# Altium integrated library pca20035.IntLib: 113 symbols (part 1 of 2)
Pins are listed as number, name and electrical type; pins without a type are passive.

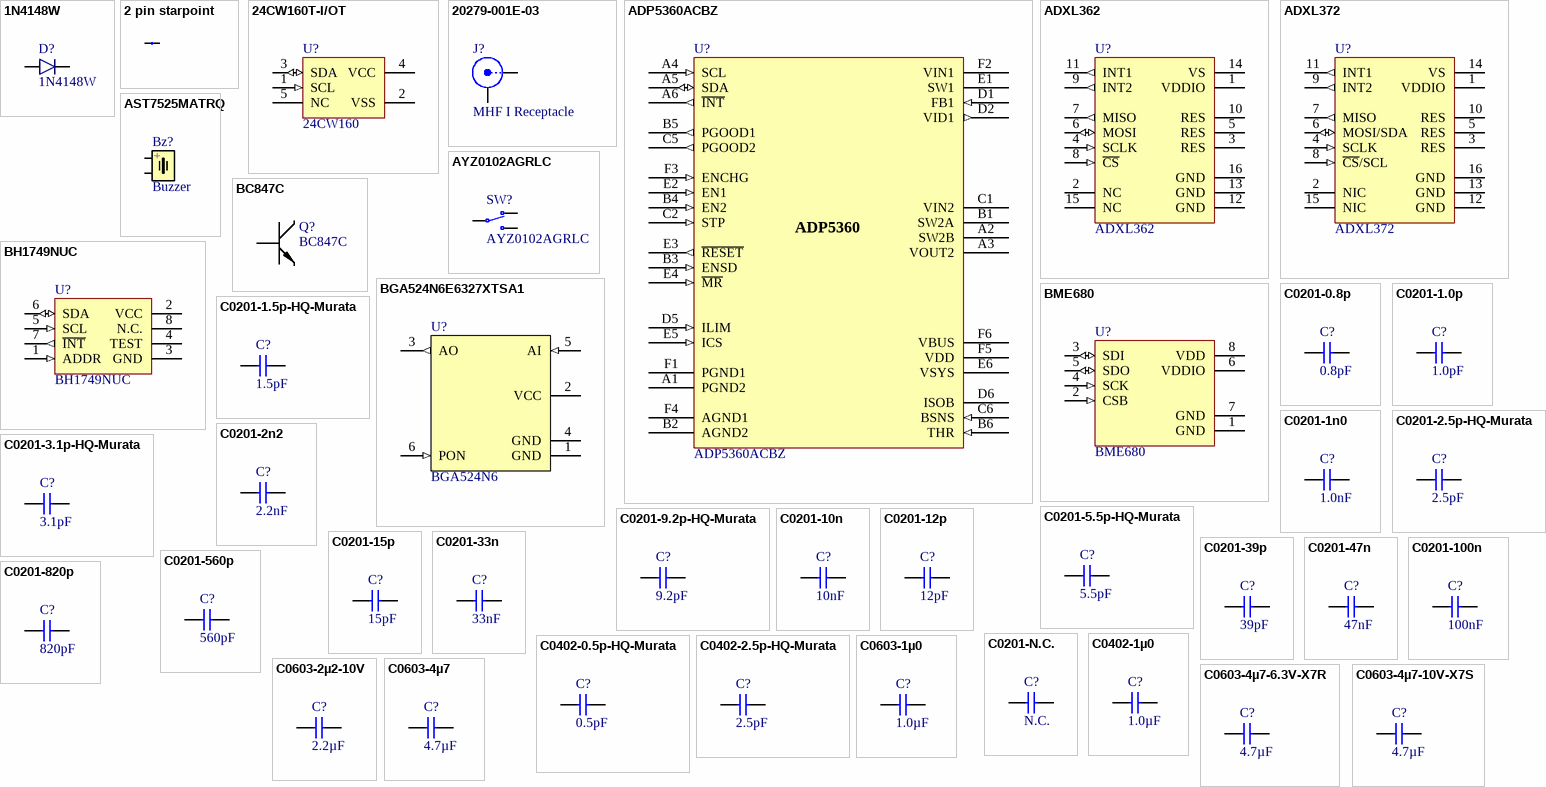
[diagram p0: symbols 1N4148W to C0603-4µ7-10V-X7S]

## 1N4148W
designator D?
1N4148, Small Signal Fast Switching Diode; Manufacturer: Vishay; Manufacturer Part Number: 1N4148W-E3-08; Part number IPS: 00000001783; Artikkelnr Noca: N.A.; Pad Count: 2; Part Number: 1N4148W; ComponentLink1URL: N.A.; ComponentLink1Description: Datasheet; ComponentLink2URL: N.A.; ComponentLink2Description: Supplier link; HelpURL: http://www.vishay.com/docs/85748/1n4148w.pdf; Footprint Doc: SOD-123; LatestRevisionDate: 2016-01-12; Published: 2011-04-21; Value: 1N4148W; Note: Small Signal Fast Switching Diode; Supplier 1: Farnell; Supplier Part Number 1: 237-7282; Supplier 2: Digi-Key; Supplier Part Number 2: 1N4148W-E3-08CT-ND; Component Class: Semiconductors; PartId: 101300078
footprint SOD-123-DIODE
pins: 1 C, 2 A

## 2 pin starpoint
designator ST?, comment N.A.  (value not drawn)  (net tie, no BOM)
Starpoint; Part Number: 2 pin starpoint; Pad Count: 2; Manufacturer: N.A.; Manufacturer Part Number: N.A.; ComponentLink1URL: N.A.; ComponentLink1Description: Datasheet; ComponentLink2URL: N.A.; ComponentLink2Description: Supplier link; HelpURL: N.A.; Footprint Doc: N.A.; LatestRevisionDate: 2017-08-31; Published: 2017-08-31; Value: N.A.; Note: N.A.; Supplier 1: N.A.; Supplier Part Number 1: N.A.; Supplier 2: N.A.; Supplier Part Number 2: N.A.; Artikkelnr Noca: N.A.; Part number IPS: N.A.; Component Class: Connectors; PartId: 100500603
footprint 2 PIN STARPOINT
pins: 1, 2

## 24CW160T-I/OT
designator U?, comment 24CW160
16 Kbit I2C Serial EEPROM with Software Write Protection, 1.6-5.5 V Supply; Part Number: 24CW160T-I/OT; Manufacturer: Microchip Technology; Part number IPS: 00000004049; Note: N.A.; Pad Count: 5; Manufacturer Part Number: 24CW160T-I/OT; Footprint Doc: TSOT23-5; LatestRevisionDate: 2020-01-17; Published: 2020-01-17; Value: 24CW160; Artikkelnr Noca: N.A.; ComponentLink1URL: http://ww1.microchip.com/downloads/en/DeviceDoc/24CW16X-24CW32X-24CW64X-24CW128X-Data-Sheet-20005772B.pdf; ComponentLink1Description: Datasheet; ComponentLink2URL: https://www.digikey.com/product-detail/en/microchip-technology/24CW160T-I-OT/24CW160T-I-OTCT-ND/8594982; ComponentLink2Description: Supplier link; HelpURL: https://www.microchip.com/wwwproducts/en/24CW160; Supplier 1: Digi-Key; Supplier Part Number 1: 24CW160T-I/OTCT-ND; Supplier 2: Mouser; Supplier Part Number 2: 579-24CW160T-I/OT; Component Class: Misc_ICs; PartId: 101900604
footprint SOT-23-5
pins: 1 SCL (in), 2 VSS (power), 3 SDA (io), 4 VCC (power), 5 NC

## 20279-001E-03
designator J?, comment MHF I Receptacle
Ultraminiature Coaxial Connector, 50 Ohm, SMD; Part Number: 20279-001E-03; Manufacturer: Wellshow; Part number IPS: 00000004436; Note: N.A.; Pad Count: 3; Manufacturer Part Number: 20279-001E-03; ComponentLink1URL: \\hizz\pro\app9717\Datasheet\connectors\Wellshow\20279C18.pdf; ComponentLink1Description: Datasheet; ComponentLink2URL: N.A.; ComponentLink2Description: Supplier link; HelpURL: N.A.; Footprint Doc: COAXIAL RF MHFI; LatestRevisionDate: 2020-04-28; Published: 2020-01-07; Value: MHF I Receptacle; Supplier 1: Cabcon; Supplier Part Number 1: 20279-001E-03; Supplier 2: Digi-Key; Supplier Part Number 2: H11891DKR-ND; Artikkelnr Noca: N.A.; Component Class: Connectors; PartId: 100500636
footprint COAXIAL RF U.FL-R-SMT-1
pins: 1 X, 2 Y

## ADP5360ACBZ
designator U?
Advanced Battery Management PMIC With Ultralow Iq Buck and Buck-Boost; Manufacturer: Analog Devices; Part number IPS: 80000001823; Note: N.A.; Pad Count: 32; Part Number: ADP5360ACBZ; Manufacturer Part Number: ADP5360ACBZ; ComponentLink1URL: \\hizz\pro\app9717\Datasheet\integated circuits\analog\ADP5360 PRC3 Datasheet_022017.pdf; ComponentLink1Description: Datasheet; ComponentLink2URL: N.A.; ComponentLink2Description: Supplier link; HelpURL: N.A.; Footprint Doc: WLCSP-32; LatestRevisionDate: 2018-09-18; Published: 2018-09-18; Value: ADP5360ACBZ; Supplier 1: N.A.; Supplier Part Number 1: N.A.; Supplier 2: N.A.; Supplier Part Number 2: N.A.; Artikkelnr Noca: N.A.; Component Class: Misc_ICs; PartId: 101900554
footprint BGA32C40P6X6_238X238X56
pins: A1 PGND2 (power), A2 SW2B (power), A3 VOUT2 (power), A4 SCL (in), A5 SDA (io), A6 ~{INT} (out), B1 SW2A (power), B2 AGND2 (power), B3 ENSD (in), B4 EN2 (in), B5 PGOOD1 (out), B6 THR (in), C1 VIN2 (power), C2 STP (in), C5 PGOOD2 (out), C6 BSNS (in), D1 FB1 (in), D2 VID1 (out), D5 ILIM (in), D6 ISOB (power), E1 SW1 (power), E2 EN1 (in), E3 ~{RESET} (out), E4 ~{MR} (in), E5 ICS (in), E6 VSYS (power), F1 PGND1 (power), F2 VIN1 (power), F3 ENCHG (in), F4 AGND1 (power), F5 VDD (power), F6 VBUS (power)
text: ADP5360

## ADXL362
designator U?
Micropower, 3-Axis, ±2 g/±4 g/±8 g Digital Output MEMS Accelerometer; Manufacturer: Analog Devices; Part number IPS: 00000001799; Note: N.A.; Pad Count: 16; Part Number: ADXL362; Manufacturer Part Number: ADXL362; ComponentLink1URL: http://www.analog.com/media/en/technical-documentation/data-sheets/ADXL362.pdf; ComponentLink1Description: Datasheet; ComponentLink2URL: http://www.analog.com/en/products/adxl362.html; ComponentLink2Description: Supplier link; HelpURL: https://www.analog.com/media/en/technical-documentation/data-sheets/ADXL362.pdf; Footprint Doc: LGA-16; LatestRevisionDate: 2019-01-11; Published: 2019-01-11; Value: ADXL362; Supplier 1: Digi-Key; Supplier Part Number 1: ADXL362BCCZ-RL7CT-ND; Supplier 2: Mouser; Supplier Part Number 2: 584-ADXL362BCCZ-R7; Artikkelnr Noca: N.A.; Component Class: Misc_ICs; PartId: 101900573
footprint LGA50P322X300X114-16N
pins: 1 VDDIO (power), 2 NC, 3 RES, 4 SCLK (in), 5 RES, 6 MOSI (io), 7 MISO (out), 8 ~{CS} (in), 9 INT2 (out), 10 RES, 11 INT1 (out), 12 GND (power), 13 GND (power), 14 VS (power), 15 NC, 16 GND (power)

## ADXL372
designator U?
Micropower, 3-Axis, ±200g digital output acelerometer; Manufacturer: Analog Devices; Part number IPS: 00000001798; Note: N.A.; Pad Count: 16; Part Number: ADXL372; Manufacturer Part Number: ADXL372; Footprint Doc: LGA-16; LatestRevisionDate: 2018-08-24; Published: 2018-08-24; Value: ADXL372; Artikkelnr Noca: N.A.; ComponentLink1URL: http://www.analog.com/media/en/technical-documentation/data-sheets/ADXL372.pdf; ComponentLink1Description: Datasheet; ComponentLink2URL: http://www.analog.com/en/products/adxl372.html; ComponentLink2Description: Supplier link; HelpURL: http://www.analog.com/en/products/adxl372.html; Supplier 1: Digi-Key; Supplier Part Number 1: ADXL372BCCZ-RL7CT-ND; Supplier 2: N.A.; Supplier Part Number 2: N.A.; Component Class: Misc_ICs; PartId: 101900553
footprint LGA50P322X300X114-16N
pins: 1 VDDIO (power), 2 NIC, 3 RES, 4 SCLK (in), 5 RES, 6 MOSI/SDA (io), 7 MISO (out), 8 ~{CS}/SCL (in), 9 INT2 (out), 10 RES, 11 INT1 (out), 12 GND (power), 13 GND (power), 14 VS (power), 15 NIC, 16 GND (power)

## AST7525MATRQ
designator Bz?, comment Buzzer
Buzzer Transducer, 3.6V 100mA 2.7kHz 85dB @ 3.6V, SMD; Part Number: AST7525MATRQ; Manufacturer: Mallory; Part number IPS: 00000001770; Note: N.A.; Pad Count: 2; Manufacturer Part Number: AST7525MATRQ; ComponentLink1URL: N.A.; ComponentLink1Description: Datasheet; ComponentLink2URL: N.A.; ComponentLink2Description: Supplier link; HelpURL: https://www.mspindy.com/specifications/AST7525MATRQ.pdf; Footprint Doc: Buzzer_SMD_7.5x7.5; LatestRevisionDate: 2019-01-14; Published: 2019-01-14; Value: Buzzer; Supplier 1: Digi-Key; Supplier Part Number 1: 458-1100-1-ND; Supplier 2: Mouser; Supplier Part Number 2: 539-AST7525MATRQ; Artikkelnr Noca: N.A.; Component Class: Transducers; PartId: 101000024
footprint Buzzer_SMD_7.5x7.5
pins: 1, 2
text: +

## AYZ0102AGRLC
designator SW?
Miniature slide switch, SPDT, Right-Angle, ON-ON, 12V, 100mA; Manufacturer: C&K; Part number IPS: 00000002488; Note: N.A.; Pad Count: 3; Part Number: AYZ0102AGRLC; Manufacturer Part Number: AYZ0102AGRLC; ComponentLink1URL: https://www.ckswitches.com/media/1431/ayz.pdf; ComponentLink1Description: Datasheet; ComponentLink2URL: N.A.; ComponentLink2Description: Supplier link; Footprint Doc: AYZ0102AGRLC; LatestRevisionDate: 2019-05-08; Published: 2019-05-08; Value: AYZ0102AGRLC; Artikkelnr Noca: N.A.; Supplier 1: Digi-Key; Supplier Part Number 1: 401-2012-1-ND; Supplier 2: N.A.; Supplier Part Number 2: N.A.; HelpURL: https://www.ckswitches.com/media/1431/ayz.pdf; Component Class: Switches; PartId: 101500120
footprint AYZ0102AGRLC
pins: 1 N.C, 2 COM, 3 N.O

## BC847C
designator Q?
BC847C, NPN Silicon transistor; Manufacturer: NXP Semiconductors; Part number IPS: 00000001793; Note: NPN Epitaxial Silicon Transistor; Artikkelnr Noca: 35019020; Pad Count: 3; Part Number: BC847C; Manufacturer Part Number: BC847C; ComponentLink1URL: N.A.; ComponentLink1Description: Datasheet; ComponentLink2URL: N.A.; ComponentLink2Description: Supplier link; HelpURL: N.A.; Footprint Doc: SOT-23a; LatestRevisionDate: 2009-11-23; Published: 2009-05-10; Value: BC847C; Supplier 1: Farnell; Supplier Part Number 1: 108-1235; Supplier 2: Digi-Key; Supplier Part Number 2: 568-1636-1-ND; Component Class: Semiconductors; PartId: 101300006
footprint SOT-23a
pins: 1 B, 2 E (power), 3 C (power)

## BGA524N6E6327XTSA1
designator U?, comment BGA524N6
GPS/GNSS Low-Noise Amplifier, 19.6dB Gain, 0.55dB Noise Figure, 1.5V to 3.3V Supply Range; Part Number: BGA524N6E6327XTSA1; Manufacturer: Infineon Technologies; Part number IPS: 00000004011; Note: N.A.; Pad Count: 6; Manufacturer Part Number: BGA524N6E6327XTSA1; Footprint Doc: XFDFN-6; Value: BGA524N6; ComponentLink1URL: https://www.infineon.com/dgdl/Infineon-BGA524N6-DS-v03_00-en.pdf?fileId=db3a304344e406b50144e44dfad302b9; ComponentLink1Description: Datasheet; ComponentLink2URL: N.A.; ComponentLink2Description: Supplier link; HelpURL: https://www.infineon.com/cms/en/product/rf-wireless-control/low-noise-amplifier-lna-ics/gps-glonass-compass-lna/bga524n6/; LatestRevisionDate: 2019-10-25; Published: 2019-10-25; Supplier 1: Digi-Key; Supplier Part Number 1: BGA524N6E6327XTSA1CT-ND; Supplier 2: Mouser; Supplier Part Number 2: 726-A524N6E6327XTSA1; Artikkelnr Noca: N.A.; Component Class: Misc_ICs; PartId: 101900596
footprint XFDFN40P100X55-6N
pins: 1 GND (power), 2 VCC (power), 3 AO (out), 4 GND (power), 5 AI (in), 6 PON (in)

## BH1749NUC
designator U?
Digital 16bit Serial Output Type Color Sensor IC; Manufacturer: Rohm Semiconductor; Part number IPS: 00000001801; Note: N.A.; Pad Count: 8; Part Number: BH1749NUC; Manufacturer Part Number: BH1749NUC; Footprint Doc: WSON-8; LatestRevisionDate: 2019-01-11; Published: 2019-01-11; Value: BH1749NUC; Artikkelnr Noca: N.A.; ComponentLink1URL: N.A.; ComponentLink1Description: Datasheet; ComponentLink2URL: N.A.; ComponentLink2Description: Supplier link; HelpURL: https://www.rohm.com/datasheet/BH1749NUC/bh1749nuc-e; Supplier 1: Digi-Key; Supplier Part Number 1: BH1749NUC-E2CT-ND; Supplier 2: Mouser; Supplier Part Number 2: 755-BH1749NUC-E2; Component Class: Misc_ICs; PartId: 101900572
footprint WSON50P210X210X60_HS-9N
pins: 1 ADDR (in), 2 VCC (power), 3 GND (power), 4 TEST, 5 SCL (in), 6 SDA (io), 7 ~{INT} (out), 8 N.C., 9 GND (power) hidden to GND

## BME680
designator U?
Low power gas, pressure, temperature & humidity sensor; Manufacturer: Bosch; Part number IPS: 00000001800; Note: N.A.; Pad Count: 8; Part Number: BME680; Manufacturer Part Number: BME680; Footprint Doc: LGA-8; LatestRevisionDate: 2018-05-24; Published: 2018-05-24; Value: BME680; Artikkelnr Noca: N.A.; ComponentLink1URL: https://ae-bst.resource.bosch.com/media/_tech/media/datasheets/BST-BME680-DS001-00.pdf; ComponentLink1Description: Datasheet; ComponentLink2Description: Supplier link; HelpURL: N.A.; Supplier 1: Digi-Key; Supplier Part Number 1: 828-1077-1-ND; Supplier 2: N.A.; Supplier Part Number 2: N.A.; Component Class: Misc_ICs; PartId: 101900532; ComponentLink2URL: N.A.
footprint BME680
pins: 1 GND (power), 2 CSB (in), 3 SDI (io), 4 SCK (in), 5 SDO (io), 6 VDDIO (power) "1.2V - 3.6V", 7 GND (power), 8 VDD (power) "1.71V - 3.6V"

## C0201-0.8p
designator C?, comment 0.8pF
Capacitor, NP0, ±0.05pF, 50V; Part Number: C0201-0.8p; Manufacturer: Murata; Manufacturer Part Number: GJM0335C1HR80WB01; Part number IPS: 80000001975; Artikkelnr Noca: N.A.; Pad Count: 2; LatestRevisionDate: 2018-10-22; Published: 2014-11-13; Value: 0.8pF; Note: 50V; Footprint Doc: 0201; ComponentLink1URL: N.A.; ComponentLink1Description: Datasheet; ComponentLink2URL: N.A.; ComponentLink2Description: Supplier link; HelpURL: N.A.; Supplier 1: N.A.; Supplier Part Number 1: N.A.; Supplier 2: N.A.; Supplier Part Number 2: N.A.; Component Class: Capacitors; PartId: 100200012
footprint CAPC0603X03L_C
pins: 1, 2

## C0201-1.0p
designator C?, comment 1.0pF
Capacitor, NP0, ±0.05pF, 50V; Part Number: C0201-1.0p; Manufacturer: N.A.; Part number IPS: 00000001247; Pad Count: 2; Manufacturer Part Number: N.A.; LatestRevisionDate: 2018-10-22; Published: 2014-11-13; Value: 1.0pF; Footprint Doc: 0201; ComponentLink1URL: N.A.; ComponentLink1Description: Datasheet; ComponentLink2URL: N.A.; ComponentLink2Description: Supplier link; HelpURL: N.A.; Note: 50V; Supplier 1: N.A.; Supplier Part Number 1: N.A.; Supplier 2: N.A.; Supplier Part Number 2: N.A.; Artikkelnr Noca: N.A.; Component Class: Capacitors; PartId: 100200014
footprint CAPC0603X03L_C
pins: 1, 2

## C0201-1.5p-HQ-Murata
designator C?, comment 1.5pF
Capacitor, NP0, ±0.05pF, 25V; Part Number: C0201-1.5p-HQ-Murata; Manufacturer: Murata; Manufacturer Part Number: GJM0334C1E1R5WB01; Part number IPS: 00000001774, 80000001939; Artikkelnr Noca: N.A.; Pad Count: 2; ComponentLink1URL: N.A.; ComponentLink1Description: Datasheet; ComponentLink2Description: Supplier link; HelpURL: https://psearch.en.murata.com/capacitor/product/GJM0334C1E1R5WB01%23.html; Footprint Doc: 0201; LatestRevisionDate: 2019-01-14; Published: 2019-01-14; Value: 1.5pF; Note: 25V; ComponentLink2URL: N.A.; Supplier 1: N.A.; Supplier Part Number 1: N.A.; Supplier 2: N.A.; Supplier Part Number 2: N.A.; Component Class: Capacitors; PartId: 100200418
footprint CAPC0603X03L_C
pins: 1, 2

## C0201-1n0
designator C?, comment 1.0nF
Capacitor, X7R, ±10%, 25V; Part Number: C0201-1n0; Manufacturer: N.A.; Part number IPS: 00000003206; Note: 16V; Pad Count: 2; Manufacturer Part Number: N.A.; ComponentLink1URL: N.A.; ComponentLink1Description: Datasheet; ComponentLink2URL: N.A.; ComponentLink2Description: Supplier link; HelpURL: N.A.; Footprint Doc: 0201; LatestRevisionDate: 2020-10-13; Published: 2014-11-13; Value: 1.0nF; Artikkelnr Noca: N.A.; Supplier 1: N.A.; Supplier Part Number 1: N.A.; Supplier 2: N.A.; Supplier Part Number 2: N.A.; Component Class: Capacitors; PartId: 100200056
footprint CAPC0603X03L_C
pins: 1, 2

## C0201-2.5p-HQ-Murata
designator C?, comment 2.5pF
Capacitor, NP0, ±0.05pF, 25V; Part Number: C0201-2.5p-HQ-Murata; Manufacturer: Murata; Manufacturer Part Number: GJM0335C1E2R5WB01; Part number IPS: 00000001771, 80000001936; Artikkelnr Noca: N.A.; Pad Count: 2; ComponentLink1URL: N.A.; ComponentLink1Description: Datasheet; ComponentLink2URL: N.A.; ComponentLink2Description: Supplier link; HelpURL: https://psearch.en.murata.com/capacitor/product/GJM0335C1E2R5WB01%23.html; Footprint Doc: 0201; LatestRevisionDate: 2020-02-07; Published: 2019-01-14; Value: 2.5pF; Note: 25V; Supplier 1: N.A.; Supplier Part Number 1: N.A.; Supplier 2: N.A.; Supplier Part Number 2: N.A.; Component Class: Capacitors; PartId: 100200420
footprint CAPC0603X03L_C
pins: 1, 2

## C0201-2n2
designator C?, comment 2.2nF
Capacitor, X7R, ±10%, 10V; Part Number: C0201-2n2; Manufacturer: N.A.; Part number IPS: 00000001778; Pad Count: 2; Manufacturer Part Number: N.A.; Footprint Doc: 0201; LatestRevisionDate: 2014-11-13; Published: 2014-11-13; Value: 2.2nF; Note: 10V; Artikkelnr Noca: N.A.; ComponentLink1URL: N.A.; ComponentLink1Description: Datasheet; ComponentLink2URL: N.A.; ComponentLink2Description: Supplier link; HelpURL: N.A.; Supplier 1: N.A.; Supplier Part Number 1: N.A.; Supplier 2: N.A.; Supplier Part Number 2: N.A.; Component Class: Capacitors; PartId: 100200060
footprint CAPC0603X03L_C
pins: 1, 2

## C0201-3.1p-HQ-Murata
designator C?, comment 3.1pF
Capacitor, NP0, ±0.05pF, 25V; Part Number: C0201-3.1p-HQ-Murata; Manufacturer: Murata; Manufacturer Part Number: GJM0335C1E3R1WB01; Part number IPS: 00000001776, 80000001941; Artikkelnr Noca: N.A.; Pad Count: 2; ComponentLink1URL: N.A.; ComponentLink1Description: Datasheet; ComponentLink2Description: Supplier link; HelpURL: https://psearch.en.murata.com/capacitor/product/GJM0335C1E3R1WB01%23.html; Footprint Doc: 0201; LatestRevisionDate: 2019-01-14; Published: 2019-01-14; Value: 3.1pF; Note: 25V; ComponentLink2URL: N.A.; Supplier 1: N.A.; Supplier Part Number 1: N.A.; Supplier 2: N.A.; Supplier Part Number 2: N.A.; Component Class: Capacitors; PartId: 100200423
footprint CAPC0603X03L_C
pins: 1, 2

## C0201-5.5p-HQ-Murata
designator C?, comment 5.5pF
Capacitor, NP0, ±0.05pF, 25V; Part Number: C0201-5.5p-HQ-Murata; Manufacturer: Murata; Manufacturer Part Number: GJM0332C1H5R5WB01; Part number IPS: 00000001772, 80000001937; Artikkelnr Noca: N.A.; Pad Count: 2; ComponentLink1URL: N.A.; ComponentLink1Description: Datasheet; ComponentLink2URL: N.A.; ComponentLink2Description: Supplier link; HelpURL: https://psearch.en.murata.com/capacitor/product/GJM0332C1H5R5WB01%23.html; Footprint Doc: 0201; LatestRevisionDate: 2019-10-28; Published: 2019-10-28; Value: 5.5pF; Note: 25V; Supplier 1: N.A.; Supplier Part Number 1: N.A.; Supplier 2: N.A.; Supplier Part Number 2: N.A.; Component Class: Capacitors; PartId: 100200425
footprint CAPC0603X03L_C
pins: 1, 2

## C0201-9.2p-HQ-Murata
designator C?, comment 9.2pF
Capacitor, NP0, ±0.05pF, 25V; Part Number: C0201-9.2p-HQ-Murata; Manufacturer: Murata; Manufacturer Part Number: GJM0332C1E9R2WB01; Part number IPS: 80000001956; Artikkelnr Noca: N.A.; Pad Count: 2; ComponentLink1URL: N.A.; ComponentLink1Description: Datasheet; ComponentLink2URL: N.A.; ComponentLink2Description: Supplier link; HelpURL: https://psearch.en.murata.com/capacitor/product/GJM0332C1E9R2WB01%23.html; Footprint Doc: 0201; LatestRevisionDate: 2019-03-27; Published: 2019-03-27; Value: 9.2pF; Note: 25V; Supplier 1: N.A.; Supplier Part Number 1: N.A.; Supplier 2: N.A.; Supplier Part Number 2: N.A.; Component Class: Capacitors; PartId: 100200427
footprint CAPC0603X03L_C
pins: 1, 2

## C0201-10n
designator C?, comment 10nF
Capacitor, X7R, ±10%; Part Number: C0201-10n; Manufacturer: N.A.; Part number IPS: 00000003480; Note: 10V; Pad Count: 2; Manufacturer Part Number: N.A.; Footprint Doc: 0201; LatestRevisionDate: 2017-11-09; Published: 2014-11-13; Value: 10nF; Artikkelnr Noca: N.A.; ComponentLink1URL: N.A.; ComponentLink1Description: Datasheet; ComponentLink2URL: N.A.; ComponentLink2Description: Supplier link; HelpURL: N.A.; Supplier 1: N.A.; Supplier Part Number 1: N.A.; Supplier 2: N.A.; Supplier Part Number 2: N.A.; Component Class: Capacitors; PartId: 100200067
footprint CAPC0603X03L_C
pins: 1, 2

## C0201-12p
designator C?, comment 12pF
Capacitor, NP0, ±2%; Part Number: C0201-12p; Manufacturer: N.A.; Part number IPS: 00000007848; Note: 25V; Pad Count: 2; LatestRevisionDate: 2017-11-09; Published: 2014-11-13; Value: 12pF; Footprint Doc: 0201; Manufacturer Part Number: N.A.; ComponentLink1URL: N.A.; ComponentLink1Description: Datasheet; ComponentLink2URL: N.A.; ComponentLink2Description: Supplier link; HelpURL: N.A.; Artikkelnr Noca: N.A.; Supplier 1: N.A.; Supplier Part Number 1: N.A.; Supplier 2: N.A.; Supplier Part Number 2: N.A.; Component Class: Capacitors; PartId: 100200033
footprint CAPC0603X03L_C
pins: 1, 2

## C0201-15p
designator C?, comment 15pF
Capacitor, NP0, ±5%, 25V; Part Number: C0201-15p; Manufacturer: N.A.; Part number IPS: 00000003193; Pad Count: 2; Manufacturer Part Number: N.A.; ComponentLink1URL: N.A.; ComponentLink1Description: Datasheet; ComponentLink2URL: N.A.; ComponentLink2Description: Supplier link; HelpURL: N.A.; Footprint Doc: 0201; LatestRevisionDate: 2020-10-13; Published: 2014-11-13; Value: 15pF; Note: 25V; Artikkelnr Noca: N.A.; Supplier 1: N.A.; Supplier Part Number 1: N.A.; Supplier 2: N.A.; Supplier Part Number 2: N.A.; Component Class: Capacitors; PartId: 100200034
footprint CAPC0603X03L_C
pins: 1, 2

## C0201-33n
designator C?, comment 33nF
Capacitor, X5R, ±10%; Part Number: C0201-33n; Manufacturer: N.A.; Part number IPS: 00000003839; Note: 10V; Pad Count: 2; Manufacturer Part Number: N.A.; ComponentLink1URL: N.A.; ComponentLink1Description: Datasheet; ComponentLink2URL: N.A.; ComponentLink2Description: Supplier link; HelpURL: N.A.; Footprint Doc: 0201; LatestRevisionDate: 2020-01-07; Published: 2014-11-13; Value: 33nF; Artikkelnr Noca: N.A.; Supplier 1: N.A.; Supplier Part Number 1: N.A.; Supplier 2: N.A.; Supplier Part Number 2: N.A.; Component Class: Capacitors; PartId: 100200073
footprint CAPC0603X03L_C
pins: 1, 2

## C0201-39p
designator C?, comment 39pF
Capacitor, NP0, ±1%, 25V; Part Number: C0201-39p; Manufacturer: Murata; Manufacturer Part Number: GRM0335C1E390FA01; Part number IPS: 00000001668; Artikkelnr Noca: N.A.; Pad Count: 2; ComponentLink1URL: N.A.; ComponentLink1Description: Datasheet; ComponentLink2URL: N.A.; ComponentLink2Description: Supplier link; HelpURL: N.A.; Footprint Doc: 0201; LatestRevisionDate: 2019-04-16; Published: 2019-04-16; Value: 39pF; Note: 25V; Supplier 1: N.A.; Supplier Part Number 1: N.A.; Supplier 2: N.A.; Supplier Part Number 2: N.A.; Component Class: Capacitors; PartId: 100200039
footprint CAPC0603X03L_C
pins: 1, 2

## C0201-47n
designator C?, comment 47nF
Capacitor, X5R, ±10%; Part Number: C0201-47n; Manufacturer: N.A.; Part number IPS: 00000001250; Note: 10V; Pad Count: 2; LatestRevisionDate: 2017-11-09; Published: 2014-11-13; Value: 47nF; Footprint Doc: 0201; Manufacturer Part Number: N.A.; ComponentLink1URL: N.A.; ComponentLink1Description: Datasheet; ComponentLink2URL: N.A.; ComponentLink2Description: Supplier link; HelpURL: N.A.; Supplier 1: N.A.; Supplier Part Number 1: N.A.; Supplier 2: N.A.; Supplier Part Number 2: N.A.; Artikkelnr Noca: N.A.; Component Class: Capacitors; PartId: 100200074
footprint CAPC0603X03L_C
pins: 1, 2

## C0201-100n
designator C?, comment 100nF
Capacitor, X5R, ±10%; Part Number: C0201-100n; Manufacturer: N.A.; Part number IPS: 00000001248, 00000002505; Note: 16V; Pad Count: 2; Manufacturer Part Number: N.A.; ComponentLink1URL: N.A.; ComponentLink1Description: Datasheet; ComponentLink2URL: N.A.; ComponentLink2Description: Supplier link; HelpURL: N.A.; Footprint Doc: 0201; LatestRevisionDate: 2017-11-09; Published: 2014-11-13; Value: 100nF; Artikkelnr Noca: N.A.; Supplier 1: N.A.; Supplier Part Number 1: N.A.; Supplier 2: N.A.; Supplier Part Number 2: N.A.; Component Class: Capacitors; PartId: 100200078
footprint CAPC0603X03L_C
pins: 1, 2

## C0201-560p
designator C?, comment 560pF
Capacitor, NP0, ±5%, 25V; Part Number: C0201-560p; Manufacturer: N.A.; Part number IPS: 00000001808; Pad Count: 2; Manufacturer Part Number: N.A.; Footprint Doc: 0201; LatestRevisionDate: 2020-12-16; Published: 2014-11-13; Value: 560pF; Note: 25V; Artikkelnr Noca: N.A.; ComponentLink1URL: N.A.; ComponentLink1Description: Datasheet; ComponentLink2URL: N.A.; ComponentLink2Description: Supplier link; HelpURL: N.A.; Supplier 1: N.A.; Supplier Part Number 1: N.A.; Supplier 2: N.A.; Supplier Part Number 2: N.A.; Component Class: Capacitors; PartId: 100200053
footprint CAPC0603X03L_C
pins: 1, 2

## C0201-820p
designator C?, comment 820pF
Capacitor, X7R, ±10%; Part Number: C0201-820p; Manufacturer: N.A.; Part number IPS: 00000001249; Note: 25V; Pad Count: 2; LatestRevisionDate: 2017-11-09; Published: 2014-11-13; Value: 820pF; Footprint Doc: 0201; Manufacturer Part Number: N.A.; ComponentLink1URL: N.A.; ComponentLink1Description: Datasheet; ComponentLink2URL: N.A.; ComponentLink2Description: Supplier link; HelpURL: N.A.; Supplier 1: N.A.; Supplier Part Number 1: N.A.; Supplier 2: N.A.; Supplier Part Number 2: N.A.; Artikkelnr Noca: N.A.; Component Class: Capacitors; PartId: 100200055
footprint CAPC0603X03L_C
pins: 1, 2

## C0201-N.C.
designator C?, comment N.C.
Not mounted; Part Number: C0201-N.C.; Manufacturer: N.A.; Note: Chip Cap; Assembly: Not mounted; Pad Count: 2; Manufacturer Part Number: N.A.; ComponentLink1URL: N.A.; ComponentLink1Description: Datasheet; ComponentLink2URL: N.A.; ComponentLink2Description: Supplier link; HelpURL: N.A.; Footprint Doc: 0201; LatestRevisionDate: 2014-11-13; Published: 2014-11-13; Value: N.C.; Artikkelnr Noca: N.A.; Part number IPS: N.A.; Supplier 1: N.A.; Supplier Part Number 1: N.A.; Supplier 2: N.A.; Supplier Part Number 2: N.A.; Component Class: Capacitors; PartId: 100200001
footprint CAPC0603X03L_C_NC
pins: 1, 2

## C0402-0.5p-HQ-Murata
designator C?, comment 0.5pF
Capacitor, NP0, ±0.05pF, 50V; Part Number: C0402-0.5p-HQ-Murata; Manufacturer: Murata; Manufacturer Part Number: GJM1555C1HR50WB01; Part number IPS: 00000004293; Artikkelnr Noca: N.A.; Pad Count: 2; ComponentLink1URL: https://search.murata.co.jp/Ceramy/image/img/A01X/G101/ENG/GJM1555C1HR50WB01-01.pdf; ComponentLink1Description: Datasheet; ComponentLink2URL: N.A.; ComponentLink2Description: Supplier link; HelpURL: https://psearch.en.murata.com/capacitor/product/GJM1555C1HR50WB01%23.html; Footprint Doc: 0402; LatestRevisionDate: 2020-02-07; Published: 2020-02-07; Value: 0.5pF; Note: 50V; Supplier 1: Digi-Key; Supplier Part Number 1: 490-11250-1-ND; Supplier 2: Mouser; Supplier Part Number 2: 81-GJM1555C1HR50WB1D; Component Class: Capacitors; PartId: 100200434
footprint CAPC1005X04L
pins: 1, 2

## C0402-1µ0
designator C?, comment 1.0µF
Capacitor, X5R, ±5%, 6.3V; Part Number: C0402-1µ0; Manufacturer: N.A.; Part number IPS: 00000007786, 00000003457; Artikkelnr Noca: 20039235; Pad Count: 2; Manufacturer Part Number: N.A.; Footprint Doc: 0402; LatestRevisionDate: 2016-08-22; Published: 2009-05-08; Value: 1.0µF; Note: 6.3V; ComponentLink1URL: N.A.; ComponentLink1Description: Datasheet; ComponentLink2URL: N.A.; ComponentLink2Description: Supplier link; HelpURL: N.A.; Supplier 1: Digi-Key; Supplier Part Number 1: 1276-1444-1-ND; Supplier 2: N.A.; Supplier Part Number 2: N.A.; Component Class: Capacitors; PartId: 100200190
footprint CAPC1005X04L
pins: 1, 2

## C0402-2.5p-HQ-Murata
designator C?, comment 2.5pF
Capacitor, NP0, ±0.05pF, 50V; Part Number: C0402-2.5p-HQ-Murata; Manufacturer: Murata; Manufacturer Part Number: GJM1555C1H2R5WB01; Part number IPS: 00000004340; Artikkelnr Noca: N.A.; Pad Count: 2; ComponentLink1URL: N.A.; ComponentLink1Description: Datasheet; ComponentLink2Description: Supplier link; HelpURL: https://psearch.en.murata.com/capacitor/product/GJM1555C1H2R5WB01%23.html; Footprint Doc: 0402; LatestRevisionDate: 2020-02-07; Published: 2020-02-07; Value: 2.5pF; Note: 50V; ComponentLink2URL: N.A.; Supplier 1: Digi-Key; Supplier Part Number 1: 490-11208-1-ND; Supplier 2: N.A.; Supplier Part Number 2: N.A.; Component Class: Capacitors; PartId: 100200428
footprint CAPC1005X04L
pins: 1, 2

## C0603-1µ0
designator C?, comment 1.0µF
Capacitor, X7R, ±10%; Part Number: C0603-1µ0; Manufacturer: N.A.; Part number IPS: 00000000616; Note: 16V; Artikkelnr Noca: 20039282; Pad Count: 2; LatestRevisionDate: 2013-06-05; Published: 2009-05-08; Value: 1.0µF; Footprint Doc: 0603; Manufacturer Part Number: N.A.; ComponentLink1URL: N.A.; ComponentLink1Description: Datasheet; ComponentLink2URL: N.A.; ComponentLink2Description: Supplier link; HelpURL: N.A.; Supplier 1: N.A.; Supplier Part Number 1: N.A.; Supplier 2: N.A.; Supplier Part Number 2: N.A.; Component Class: Capacitors; PartId: 100200271
footprint CAPC1608X06L
pins: 1, 2

## C0603-2µ2-10V
designator C?, comment 2.2µF
Capacitor, X7R, ±10%, 10V; Part Number: C0603-2µ2-10V; Manufacturer: Samsung Electro-Mechanics America; Manufacturer Part Number: CL10B225KP8NNNC; Part number IPS: 00000001781; Artikkelnr Noca: 20030083; Pad Count: 2; Footprint Doc: 0603; LatestRevisionDate: 2016-10-10; Published: 2016-10-10; Value: 2.2µF; Note: 10V; ComponentLink1URL: N.A.; ComponentLink1Description: Datasheet; ComponentLink2URL: N.A.; ComponentLink2Description: Supplier link; HelpURL: http://www.samsungsem.com/kr/front/downloadcms.do?path=/kr/support/product-search/mlcc/__icsFiles/afieldfile/2014/11/05&fileName=C_CL10B225KP8NNNC.pdf; Supplier 1: Digi-Key; Supplier Part Number 1: 1276-1134-1-ND; Supplier 2: N.A.; Supplier Part Number 2: N.A.; Component Class: Capacitors; PartId: 100200393
footprint CAPC1608X06L
pins: 1, 2

## C0603-4µ7
designator C?, comment 4.7µF
Capacitor, X5R, ±10%; Manufacturer: N.A.; Part Number: C0603-4µ7; Part number IPS: 00000007783; Note: 6.3V; Artikkelnr Noca: 20069060; Pad Count: 2; Manufacturer Part Number: N.A.; Footprint Doc: 0603; Value: 4.7µF; ComponentLink1URL: N.A.; ComponentLink1Description: Datasheet; ComponentLink2URL: N.A.; ComponentLink2Description: Supplier link; HelpURL: N.A.; LatestRevisionDate: 2009-11-23; Published: 2009-05-08; Supplier 1: N.A.; Supplier Part Number 1: N.A.; Supplier 2: N.A.; Supplier Part Number 2: N.A.; Component Class: Capacitors; PartId: 100200274
footprint CAPC1608X06L
pins: 1, 2

## C0603-4µ7-6.3V-X7R
designator C?, comment 4.7µF
Capacitor, X7R, ±10%, 6.3V; Part Number: C0603-4µ7-6.3V-X7R; Manufacturer: Samsung Electro-Mechanics America; Manufacturer Part Number: CL10B475KQ8NQNC; Part number IPS: 00000002541; Artikkelnr Noca: 20039473; Pad Count: 2; LatestRevisionDate: 2015-06-10; Published: 2015-06-10; Value: 4.7µF; Note: 6.3V; Footprint Doc: 0603; ComponentLink1URL: N.A.; ComponentLink1Description: Datasheet; ComponentLink2URL: N.A.; ComponentLink2Description: Supplier link; HelpURL: http://media.digikey.com/pdf/Data%20Sheets/Samsung%20PDFs/CL10B475KQ8NQNC_Spec.pdf; Supplier 1: Digi-Key; Supplier Part Number 1: 1276-2087-1-ND; Supplier 2: N.A.; Supplier Part Number 2: N.A.; Component Class: Capacitors; PartId: 100200350
footprint CAPC1608X06L
pins: 1, 2

## C0603-4µ7-10V-X7S
designator C?, comment 4.7µF
Capacitor, X7S, ±10%, 10V; Part Number: C0603-4µ7-10V-X7S; Manufacturer: N.A.; Part number IPS: 00000001779; Artikkelnr Noca: 20030013; Pad Count: 2; LatestRevisionDate: 2016-08-15; Published: 2016-08-15; Value: 4.7µF; Note: 10V; Footprint Doc: 0603; Manufacturer Part Number: N.A.; ComponentLink1URL: N.A.; ComponentLink1Description: Datasheet; ComponentLink2URL: N.A.; ComponentLink2Description: Supplier link; HelpURL: N.A.; Supplier 1: Digi-Key; Supplier Part Number 1: 445-14258-1-ND; Supplier 2: N.A.; Supplier Part Number 2: N.A.; Component Class: Capacitors; PartId: 100200351
footprint CAPC1608X06L
pins: 1, 2

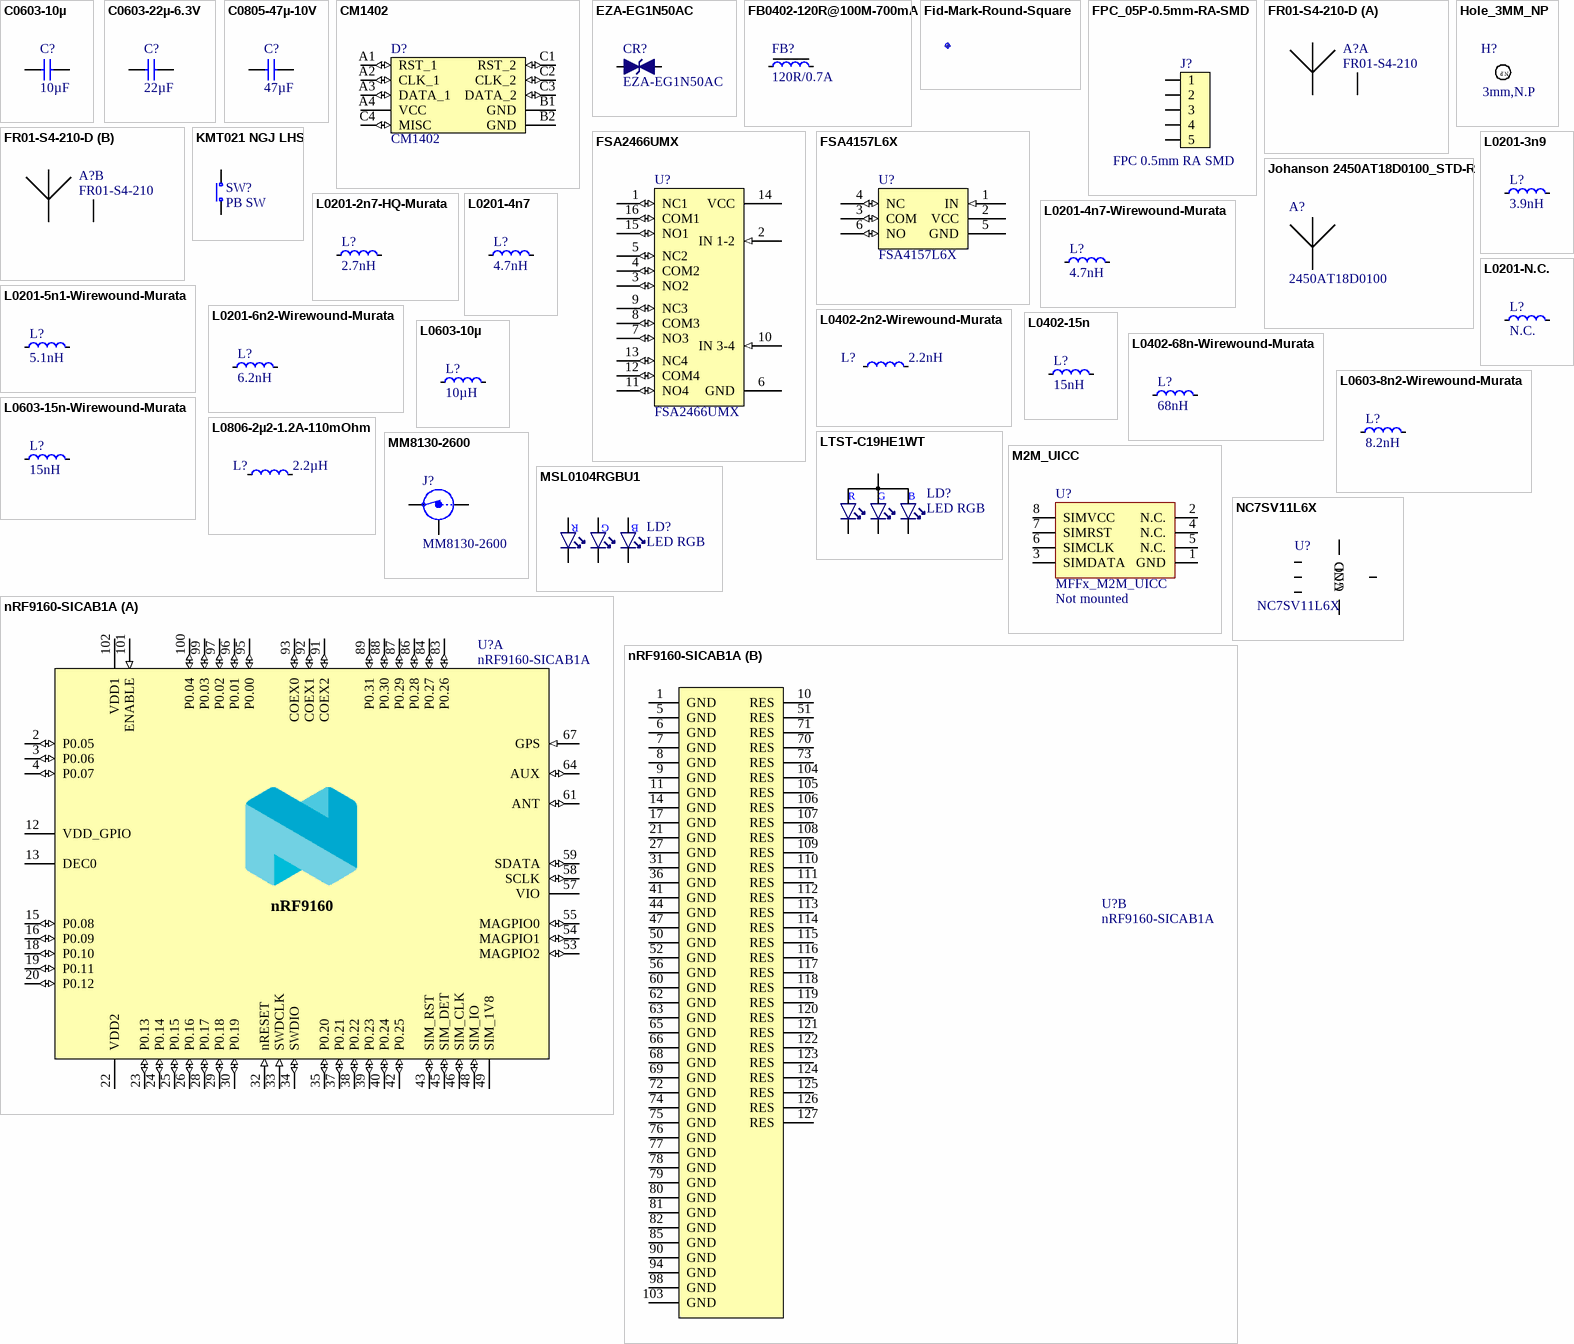
[diagram p1: symbols C0603-10µ to nRF9160-SICAB1A]

## C0603-10µ
designator C?, comment 10µF
Capacitor, X5R, ±20%; Part Number: C0603-10µ; Manufacturer: N.A.; Part number IPS: 00000007785; Note: 6.3V; Artikkelnr Noca: 20039234; Pad Count: 2; Manufacturer Part Number: N.A.; Footprint Doc: 0603; LatestRevisionDate: 2011-01-17; Published: 2011-01-17; Value: 10µF; ComponentLink1URL: N.A.; ComponentLink1Description: Datasheet; ComponentLink2URL: N.A.; ComponentLink2Description: Supplier link; HelpURL: N.A.; Supplier 1: N.A.; Supplier Part Number 1: N.A.; Supplier 2: N.A.; Supplier Part Number 2: N.A.; Component Class: Capacitors; PartId: 100200275
footprint CAPC1608X06L
pins: 1, 2

## C0603-22µ-6.3V
designator C?, comment 22µF
Capacitor, X5R, ±20%, 6.3V; Part Number: C0603-22µ-6.3V; Manufacturer: Samsung Electro-Mechanics America; Manufacturer Part Number: CL10A226MQ8NRNC; Part number IPS: 00000007787; Artikkelnr Noca: N.A.; Pad Count: 2; Footprint Doc: 0603; LatestRevisionDate: 2015-04-10; Published: 2015-04-10; Value: 22µF; Note: 6.3V; ComponentLink1URL: N.A.; ComponentLink1Description: Datasheet; ComponentLink2URL: N.A.; ComponentLink2Description: Supplier link; HelpURL: http://www.samsungsem.com/kr/front/downloadcms.do?path=/kr/support/product-search/mlcc/__icsFiles/afieldfile/2014/11/05&fileName=S_CL10A226MQ8NRNC.pdf; Supplier 1: Digi-Key; Supplier Part Number 1: 1276-1193-1-ND; Supplier 2: N.A.; Supplier Part Number 2: N.A.; Component Class: Capacitors; PartId: 100200363
footprint CAPC1608X06L
pins: 1, 2

## C0805-47µ-10V
designator C?, comment 47µF
Capacitor, X5R, ±20%, 10V; Part Number: C0805-47µ-10V; Manufacturer: Murata; Manufacturer Part Number: GRM21BR61A476ME15; Part number IPS: 00000004759; Artikkelnr Noca: N.A.; Pad Count: 2; ComponentLink1URL: https://search.murata.co.jp/Ceramy/image/img/A01X/G101/ENG/GRM21BR61A476ME15-01A.pdf; ComponentLink1Description: Datasheet; ComponentLink2URL: N.A.; ComponentLink2Description: Supplier link; HelpURL: https://www.murata.com/en-global/products/productdetail?partno=GRM21BR61A476ME15%23; Footprint Doc: 0805; LatestRevisionDate: 2020-10-23; Published: 2020-08-14; Value: 47µF; Note: 10V; Supplier 1: Digi-Key; Supplier Part Number 1: 490-9961-1-ND; Supplier 2: N.A.; Supplier Part Number 2: N.A.; Component Class: Capacitors; PartId: 100200288
footprint CAPC2012X11L
pins: 1, 2

## CM1402
designator D?
EMI Network Filter Arrays SIM CARD EMI FILTER WITH ESD PROTECTION; Manufacturer: ON Semiconductor; Manufacturer Part Number: CM1402-03CP; Part number IPS: 00000009949; Note: N.A.; Pad Count: 10; Part Number: CM1402; Footprint Doc: CM1402; LatestRevisionDate: 2017-02-06; Published: 2017-02-06; Value: CM1402; Artikkelnr Noca: N.A.; ComponentLink1URL: N.A.; ComponentLink1Description: Datasheet; ComponentLink2URL: N.A.; ComponentLink2Description: Supplier link; HelpURL: http://www.onsemi.com/pub_link/Collateral/CM1402-D.PDF; Supplier 1: Digi-Key; Supplier Part Number 1: CM1402-03CPOSTR-ND; Supplier 2: Mouser; Supplier Part Number 2: 748-CM1402-03CP; Component Class: Semiconductors; PartId: 101300139
footprint CM1402
pins: A1 RST_1 (io), A2 CLK_1 (io), A3 DATA_1 (io), A4 VCC (power), B1 GND (power), B2 GND (power), C1 RST_2 (io), C2 CLK_2 (io), C3 DATA_2 (io), C4 MISC (io)

## EZA-EG1N50AC
designator CR?
ESD Suppressor, 30V, 0.04pF; Manufacturer: Panasonic; Part number IPS: 00000004437; Note: N.A.; Pad Count: 2; Part Number: EZA-EG1N50AC; Manufacturer Part Number: EZA-EG1N50AC; ComponentLink1URL: https://industrial.panasonic.com/cdbs/www-data/pdf/AWD0000/AWD0000C13.pdf; ComponentLink1Description: Datasheet; ComponentLink2URL: N.A.; ComponentLink2Description: Supplier link; HelpURL: N.A.; Footprint Doc: 0201; LatestRevisionDate: 2020-04-28; Published: 2020-02-06; Value: EZA-EG1N50AC; Artikkelnr Noca: N.A.; Supplier 1: Digi-Key; Supplier Part Number 1: P122037CT-ND; Supplier 2: N.A.; Supplier Part Number 2: N.A.; Component Class: Semiconductors; PartId: 101300173
footprint RESC0603X03L_C
pins: 1, 2

## FB0402-120R@100M-700mA
designator FB?, comment 120R/0.7A
Ferrite Bead, 120 Ohm @ 100MHz, 700mA, 130 mOhm Max; Part Number: FB0402-120R@100M-700mA; Manufacturer: Murata; Manufacturer Part Number: BLM15AX121SN1; Part number IPS: 00000004487; Note: N.A.; Pad Count: 2; ComponentLink1URL: https://www.murata.com/en-us/products/productdata/8796740059166/ENFA0018.pdf; ComponentLink1Description: Datasheet; ComponentLink2URL: N.A.; ComponentLink2Description: Supplier link; HelpURL: https://www.murata.com/products/productdetail?partno=BLM15AX121SN1%23; Footprint Doc: 0402; LatestRevisionDate: 2020-04-28; Published: 2020-04-28; Value: 120R/0.7A; Artikkelnr Noca: N.A.; Supplier 1: Digi-Key; Supplier Part Number 1: 490-5439-1-ND; Supplier 2: N.A.; Supplier Part Number 2: N.A.; Component Class: Inductors; PartId: 100300100
footprint INDC1005X04L
pins: 1, 2

## Fid-Mark-Round-Square
designator Fid?, comment Fiducial mark  (value not drawn)
Part Number: Fid-Mark-Round-Square; Manufacturer: N.A.; Value: N.A.; Pad Count: 1; Manufacturer Part Number: N.A.; LatestRevisionDate: 2017-01-30; Published: 2009-12-12; Note: N.A.; Artikkelnr Noca: N.A.; Footprint Doc: Fiducial; Part number IPS: N.A.; ComponentLink1URL: N.A.; ComponentLink1Description: Datasheet; ComponentLink2URL: N.A.; ComponentLink2Description: Supplier link; HelpURL: N.A.; Supplier 1: N.A.; Supplier Part Number 1: N.A.; Supplier 2: N.A.; Supplier Part Number 2: N.A.; Component Class: Connectors; PartId: 100500075
footprint Fiducial_Round-Square

## FPC_05P-0.5mm-RA-SMD
designator J?, comment FPC 0.5mm RA SMD
0.5mm FPC, 5P,Right Angle SMT,Double Contact,H=1.2mm,White, Tin plated; Part Number: FPC_05P-0.5mm-RA-SMD; Manufacturer: W-CON; Manufacturer Part Number: 5141-05RZDNWR01; Part number IPS: 00000007792; Note: N.A.; Artikkelnr Noca: 55010020; Pad Count: 7; Footprint Doc: FPC_05P-0.5mm-RA-SMD; LatestRevisionDate: 2016-04-21; Published: 2015-06-22; Value: FPC 0.5mm RA SMD; ComponentLink1URL: N.A.; ComponentLink1Description: Datasheet; ComponentLink2URL: N.A.; ComponentLink2Description: Supplier link; HelpURL: \\hizz\pro\app9717\Datasheet\connectors\W-CON\5141-XXRZDNXX0X.pdf; Supplier 1: Cabcon; Supplier Part Number 1: 5141-05RZDNWR01; Supplier 2: Digi-Key; Supplier Part Number 2: WM9836CT-ND; Component Class: Connectors; PartId: 100500528
footprint FPC_05P-0.5mm-RA-SMD
pins: 1, 2, 3, 4, 5

## FR01-S4-210-D
designator A?, comment FR01-S4-210
Mobile IoT LTE Multi-Band Antenna; Part Number: FR01-S4-210-D; Manufacturer: Fractus Antennas; Part number IPS: 80000001819; Note: N.A.; Pad Count: 5; Manufacturer Part Number: FR01-S4-210; ComponentLink1URL: https://www.fractusantennas.com/wp-content/uploads/2018/01/DS_FR01-S4-210.pdf; ComponentLink1Description: Datasheet; ComponentLink2URL: https://www.fractusantennas.com/trio-mxtend-mobile-iot-antenna/; ComponentLink2Description: Supplier link; HelpURL: https://www.fractusantennas.com/wp-content/uploads/2018/02/UM_FR01-S4-210.pdf; Footprint Doc: FR01-S4-210; LatestRevisionDate: 2018-07-09; Published: 2018-07-09; Value: FR01-S4-210; Artikkelnr Noca: N.A.; Supplier 1: N.A.; Supplier Part Number 1: N.A.; Supplier 2: N.A.; Supplier Part Number 2: N.A.; Component Class: Antennas; PartId: 100700054
footprint FR01-S4-210_DF
part A pins: 1 Feed A, 2 Tuning A
part B pins: 3 Feed B, 4 Tuning B

## FSA2466UMX
designator U?
Data / Audio Low-Voltage Dual DPDT Analog Switch; Manufacturer: ON Semiconductor; Part number IPS: 00000009986; Note: N.A.; Artikkelnr Noca: 15070069; Pad Count: 16; Part Number: FSA2466UMX; Manufacturer Part Number: FSA2466UMX; ComponentLink1URL: N.A.; ComponentLink1Description: Datasheet; ComponentLink2URL: N.A.; ComponentLink2Description: Supplier link; HelpURL: https://www.onsemi.com/pub/Collateral/FSA2466-D.PDF; Footprint Doc: UFQFN-16; LatestRevisionDate: 2019-05-15; Published: 2016-05-18; Value: FSA2466UMX; Supplier 1: Digi-Key; Supplier Part Number 1: FSA2466UMXCT-ND; Supplier 2: Mouser; Supplier Part Number 2: 512-FSA2466UMX; Component Class: Misc_ICs; PartId: 101900422
footprint XQFN40P180X260X50-16N
pins: 1 NC1 (io), 2 IN 1-2 (in), 3 NO2 (io), 4 COM2 (io), 5 NC2 (io), 6 GND (power), 7 NO3 (io), 8 COM3 (io), 9 NC3 (io), 10 IN 3-4 (in), 11 NO4 (io), 12 COM4 (io), 13 NC4 (io), 14 VCC (power), 15 NO1 (io), 16 COM1 (io)

## FSA4157L6X
designator U?
Low-Voltage, SPDT Analog Switch, 1.65 V to 5.5 V; Manufacturer: ON Semiconductor; Part number IPS: 00000003748; Note: N.A.; Pad Count: 6; Part Number: FSA4157L6X; Manufacturer Part Number: FSA4157L6X; ComponentLink1URL: https://www.onsemi.com/pub/Collateral/FSA4157-D.pdf; ComponentLink1Description: Datasheet; ComponentLink2URL: https://www.digikey.com/product-detail/en/on-semiconductor/FSA4157L6X/FSA4157L6XCT-ND/821004; ComponentLink2Description: Supplier link; HelpURL: https://www.onsemi.com/pub/Collateral/FSA4157-D.pdf; Footprint Doc: UFDFN-6; LatestRevisionDate: 2020-04-29; Published: 2019-10-22; Value: FSA4157L6X; Supplier 1: Digi-Key; Supplier Part Number 1: FSA4157L6XCT-ND; Supplier 2: Mouser; Supplier Part Number 2: 512-FSA4157L6X; Artikkelnr Noca: N.A.; Component Class: Misc_ICs; PartId: 101900593
footprint PSON50P100X60-6N
pins: 1 IN (in), 2 VCC (power), 3 COM (io), 4 NC (io), 5 GND (power), 6 NO (io)

## Hole_3MM_NP
designator H?, comment 3mm,N.P  (no BOM)
Regular Non-Plated, 3mm hole; Part Number: Hole_3MM_NP; Manufacturer: Nordic Semiconductor; Manufacturer Part Number: N.A.; Pad Count: 1; Footprint Doc: Hole_3MM_NP; LatestRevisionDate: 2009-12-12; Published: 2009-12-12; Value: 3mm,N.P; Note: Regular Non-Plated, 3mm hole; Artikkelnr Noca: N.A.; Part number IPS: N.A.; ComponentLink1URL: N.A.; ComponentLink1Description: Datasheet; ComponentLink2URL: N.A.; ComponentLink2Description: Supplier link; HelpURL: N.A.; Supplier 1: N.A.; Supplier Part Number 1: N.A.; Supplier 2: N.A.; Supplier Part Number 2: N.A.; Component Class: Connectors; PartId: 100500145
footprint HOLE_NP_3MM
pins: 1
text: N.P

## Johanson 2450AT18D0100_STD-R
designator A?, comment 2450AT18D0100
2.45 GHz chip antenna; Part Number: Johanson 2450AT18D0100_STD-R; Manufacturer: Johanson Technology; Part number IPS: 00000001415; Note: N.A.; Artikkelnr Noca: 53059035; Pad Count: 4; Manufacturer Part Number: 2450AT18D0100; Footprint Doc: 2450AT18D0100; LatestRevisionDate: 2016-06-02; Published: 2016-01-12; Value: 2450AT18D0100; ComponentLink1URL: N.A.; ComponentLink1Description: Datasheet; ComponentLink2URL: N.A.; ComponentLink2Description: Supplier link; HelpURL: http://www.johansontechnology.com/datasheets/antennas/2450AT18D0100.pdf; Supplier 1: Digi-Key; Supplier Part Number 1: 2450AT18D0100E; Supplier 2: Mouser; Supplier Part Number 2: 609-2450AT18D0100E; Component Class: Antennas; PartId: 100700005
footprint 2450AT18D0100_STD-R
pins: 1, 2 GND (power) hidden to GND

## KMT021 NGJ LHS
designator SW?, comment PB SW
Nano-Miniature Top Actuated Tact Switch with extended life 3.0x2.6mm; Part Number: KMT021 NGJ LHS; Manufacturer: C&K; Part number IPS: 00000005416; Note: N.A.; Pad Count: 4; Manufacturer Part Number: KMT021 NGJ LHS; ComponentLink1URL: N.A.; ComponentLink1Description: Datasheet; ComponentLink2URL: N.A.; ComponentLink2Description: Supplier link; HelpURL: http://media.digikey.com/pdf/Data%20Sheets/C&K/KMT_0xx_NGJ_LHS_Drawing.pdf; Footprint Doc: SW_TACTILE_2.6x3.0MM_4-LEAD; LatestRevisionDate: 2013-08-12; Published: 2013-08-12; Value: PB SW; Supplier 1: Digi-Key; Supplier Part Number 1: CKN10289CT-ND; Supplier 2: Farnell; Supplier Part Number 2: 190-8260; Artikkelnr Noca: N.A.; Component Class: Switches; PartId: 101500039
footprint SW_TACTILE_2.6x3.0MM_4-LEAD
pins: 1 N.O, 2 COM

## L0201-2n7-HQ-Murata
designator L?, comment 2.7nH
Inductor, 600mA, ±0.1ｎH, 120mOhm; Part Number: L0201-2n7-HQ-Murata; Manufacturer: Murata; Manufacturer Part Number: LQP03HQ2N7B02; Part number IPS: 00000001753; Note: -55°C ~ 125°C; Artikkelnr Noca: N.A.; Pad Count: 2; LatestRevisionDate: 2018-10-23; Published: 2018-10-23; Value: 2.7nH; Footprint Doc: 0201; ComponentLink1URL: https://search.murata.co.jp/Ceramy/image/img/P02/JELF243C-0021.pdf; ComponentLink1Description: Datasheet; ComponentLink2URL: N.A.; ComponentLink2Description: Supplier link; HelpURL: https://psearch.en.murata.com/inductor/product/LQP03HQ2N7B02%23.html; Supplier 1: Digi-Key; Supplier Part Number 1: 490-13909-1-ND; Supplier 2: N.A.; Supplier Part Number 2: N.A.; Component Class: Inductors; PartId: 100300214
footprint INDC0603X03L_C
pins: 1, 2

## L0201-3n9
designator L?, comment 3.9nH
Inductor, 400mA, ±0.1nH; Part Number: L0201-3n9; Manufacturer: Murata; Manufacturer Part Number: LQP03TN3N9B02D; Part number IPS: 00000001253; Note: N.A.; Pad Count: 2; LatestRevisionDate: 2017-11-09; Published: 2013-04-10; Value: 3.9nH; Footprint Doc: 0201; ComponentLink1URL: N.A.; ComponentLink1Description: Datasheet; ComponentLink2URL: N.A.; ComponentLink2Description: Supplier link; HelpURL: N.A.; Supplier 1: N.A.; Supplier Part Number 1: N.A.; Supplier 2: N.A.; Supplier Part Number 2: N.A.; Artikkelnr Noca: N.A.; Component Class: Inductors; PartId: 100300022
footprint INDC0603X03L_C
pins: 1, 2

## L0201-4n7
designator L?, comment 4.7nH
Inductor, 350mA, ±3%; Part Number: L0201-4n7; Manufacturer: Murata; Manufacturer Part Number: LQP03TN4N7H02D; Part number IPS: 00000001792; Note: N.A.; Pad Count: 2; LatestRevisionDate: 2013-04-10; Published: 2013-04-10; Value: 4.7nH; Footprint Doc: 0201; ComponentLink1URL: N.A.; ComponentLink1Description: Datasheet; ComponentLink2URL: N.A.; ComponentLink2Description: Supplier link; HelpURL: N.A.; Supplier 1: N.A.; Supplier Part Number 1: N.A.; Supplier 2: N.A.; Supplier Part Number 2: N.A.; Artikkelnr Noca: N.A.; Component Class: Inductors; PartId: 100300024
footprint INDC0603X03L_C
pins: 1, 2

## L0201-4n7-Wirewound-Murata
designator L?, comment 4.7nH
Inductor, 620mA, ±5%, 90mOhm, Q=45; Part Number: L0201-4n7-Wirewound-Murata; Manufacturer: Murata; Manufacturer Part Number: LQW03AW4N7J00; Part number IPS: 00000001790; Note: -55°C ~ 125°C; Artikkelnr Noca: N.A.; Pad Count: 2; ComponentLink1URL: https://search.murata.co.jp/Ceramy/image/img/P02/JELF243A-0109.pdf; ComponentLink1Description: Datasheet; ComponentLink2Description: Supplier link; HelpURL: https://psearch.en.murata.com/inductor/product/LQW03AW4N7J00%23.html; Footprint Doc: 0201; LatestRevisionDate: 2018-10-22; Published: 2018-10-22; Value: 4.7nH; ComponentLink2URL: N.A.; Supplier 1: Digi-Key; Supplier Part Number 1: 490-13838-1-ND; Supplier 2: N.A.; Supplier Part Number 2: N.A.; Component Class: Inductors; PartId: 100300175
footprint INDC0603X03L_C
pins: 1, 2

## L0201-5n1-Wirewound-Murata
designator L?, comment 5.1nH
Inductor, 480mA, ±5%, 140mOhm, Q=45; Part Number: L0201-5n1-Wirewound-Murata; Manufacturer: Murata; Manufacturer Part Number: LQW03AW5N1J00; Part number IPS: 00000001789; Note: -55°C ~ 125°C; Artikkelnr Noca: N.A.; Pad Count: 2; ComponentLink1URL: https://search.murata.co.jp/Ceramy/image/img/P02/JELF243A-0109.pdf; ComponentLink1Description: Datasheet; ComponentLink2Description: Supplier link; HelpURL: https://psearch.en.murata.com/inductor/product/LQW03AW5N1J00%23.html; Footprint Doc: 0201; LatestRevisionDate: 2018-10-22; Published: 2018-10-22; Value: 5.1nH; ComponentLink2URL: N.A.; Supplier 1: Digi-Key; Supplier Part Number 1: 490-13839-1-ND; Supplier 2: N.A.; Supplier Part Number 2: N.A.; Component Class: Inductors; PartId: 100300176
footprint INDC0603X03L_C
pins: 1, 2

## L0201-6n2-Wirewound-Murata
designator L?, comment 6.2nH
Inductor, 360mA, ±5%, 220mOhm, Q=39; Part Number: L0201-6n2-Wirewound-Murata; Manufacturer: Murata; Manufacturer Part Number: LQW03AW6N2J00; Part number IPS: 00000001915; Note: -55°C ~ 125°C; Artikkelnr Noca: N.A.; Pad Count: 2; ComponentLink1URL: https://search.murata.co.jp/Ceramy/image/img/P02/JELF243A-0109.pdf; ComponentLink1Description: Datasheet; ComponentLink2Description: Supplier link; HelpURL: https://psearch.en.murata.com/inductor/product/LQW03AW6N2J00%23.html; Footprint Doc: 0201; LatestRevisionDate: 2018-10-22; Published: 2018-10-22; Value: 6.2nH; ComponentLink2URL: N.A.; Supplier 1: Digi-Key; Supplier Part Number 1: 490-13840-1-ND; Supplier 2: N.A.; Supplier Part Number 2: N.A.; Component Class: Inductors; PartId: 100300180
footprint INDC0603X03L_C
pins: 1, 2

## L0201-N.C.
designator L?, comment N.C.
Not mounted; Part Number: L0201-N.C.; Manufacturer: N.A.; Assembly: Not mounted; Pad Count: 2; Manufacturer Part Number: N.A.; ComponentLink1URL: N.A.; ComponentLink1Description: Datasheet; ComponentLink2Description: Supplier link; HelpURL: N.A.; Footprint Doc: 0201; LatestRevisionDate: 2013-04-10; Published: 2013-04-10; Value: N.C.; Note: N.A.; Artikkelnr Noca: N.A.; Part number IPS: N.A.; ComponentLink2URL: N.A.; Supplier 1: N.A.; Supplier Part Number 1: N.A.; Supplier 2: N.A.; Supplier Part Number 2: N.A.; Component Class: Inductors; PartId: 100300001
footprint INDC0603X03L_C_NC
pins: 1, 2

## L0402-2n2-Wirewound-Murata
designator L?, comment 2.2nH
Inductor, 2530mA, ±0.2nH, 22mΩ, Q=30; Part Number: L0402-2n2-Wirewound-Murata; Manufacturer: Murata; Manufacturer Part Number: LQW15AN2N2C80; Part number IPS: 00000003981; Note: -55°C ~ 125°C; Artikkelnr Noca: N.A.; Pad Count: 2; ComponentLink1URL: https://search.murata.co.jp/Ceramy/image/img/P02/JELF243A-0100.pdf; ComponentLink1Description: Datasheet; ComponentLink2Description: Supplier link; HelpURL: https://psearch.en.murata.com/inductor/product/LQW15AN2N2C80%23.html; Footprint Doc: 0402; LatestRevisionDate: 2020-01-07; Published: 2019-04-16; Value: 2.2nH; ComponentLink2URL: N.A.; Supplier 1: Digi-Key; Supplier Part Number 1: 490-7633-1-ND; Supplier 2: N.A.; Supplier Part Number 2: N.A.; Component Class: Inductors; PartId: 100300289
footprint INDC1005X04L_WW
pins: 1, 2

## L0402-15n
designator L?, comment 15nH
Inductor, 320mA, ±5%; Part Number: L0402-15n; Manufacturer: Taiyo Yuden; Manufacturer Part Number: HK100515NJ-T; Part number IPS: 00000001262; Note: High frequency chip inductor ±10%; Artikkelnr Noca: 33029323; Pad Count: 2; LatestRevisionDate: 2012-09-19; Published: 2010-07-12; Value: 15nH; Footprint Doc: 0402; ComponentLink1URL: N.A.; ComponentLink1Description: Datasheet; ComponentLink2Description: Supplier link; HelpURL: http://www.yuden.co.jp/productdata/catalog/en/mlci04_e.pdf; ComponentLink2URL: N.A.; Supplier 1: Digi-Key; Supplier Part Number 1: 587-1521-1-ND; Supplier 2: Farnell; Supplier Part Number 2: 658-1328; Component Class: Inductors; PartId: 100300056
footprint INDC1005X04L
pins: 1, 2